# EAGLE library part BGU6102,147 (library ruark2)
RF Amplifier 40MHz - 4GHz, P1dB =9.5dBm, G=19dB, NF=2.3dB, I=20mA, V=1.5-5V, 6-HXSON (1.3x2)
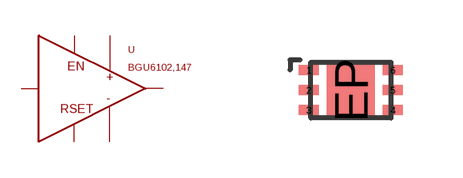
[diagram p57: symbol with the pads of 6-XFDFN; footprint 6-XFDFN]

Designator prefix U

## BGU6102,147 (PARTNO: 568-10150-1-ND; VALUE: BGU6102)  [6-XFDFN]
1  VCC
3  IN
4  OUT
5  EN
6  R
EP  GND

## Footprint 6-XFDFN (pad centres in mm)
smd 0.5 x 0.25: 1 -1.05,0.5; 2 -1.05,0; 3 -1.05,-0.5; 4 1.05,-0.5; 5 1.05,0; 6 1.05,0.5
smd 1.2 x 1.4: EP 0,0